# Altium schematic symbol library NAR105.Schlib: 1 symbol
Pins are listed as number, name and electrical type; pins without a type are passive.

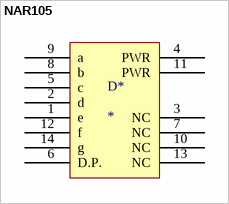
[diagram p0: symbol NAR105]

## NAR105
designator D*
7 Segment LED
pins: 1 e, 2 d, 3 NC, 4 PWR, 5 c, 6 D.P., 7 NC, 8 b, 9 a, 10 NC, 11 PWR, 12 f, 13 NC, 14 g